# Altium footprint library PJ-002BH-SMT-TR.PcbLib: 1 footprints
Each footprint in its own frame and in the unit in brackets; x right, y up, seen from the top. Pads: shape width x height; smd on the part's side, far side on the other; paste and mask are expansions set on the pad; w line width, h text height; cw(c..) or ccw(c..) is an arc to the next point about the centre after c.
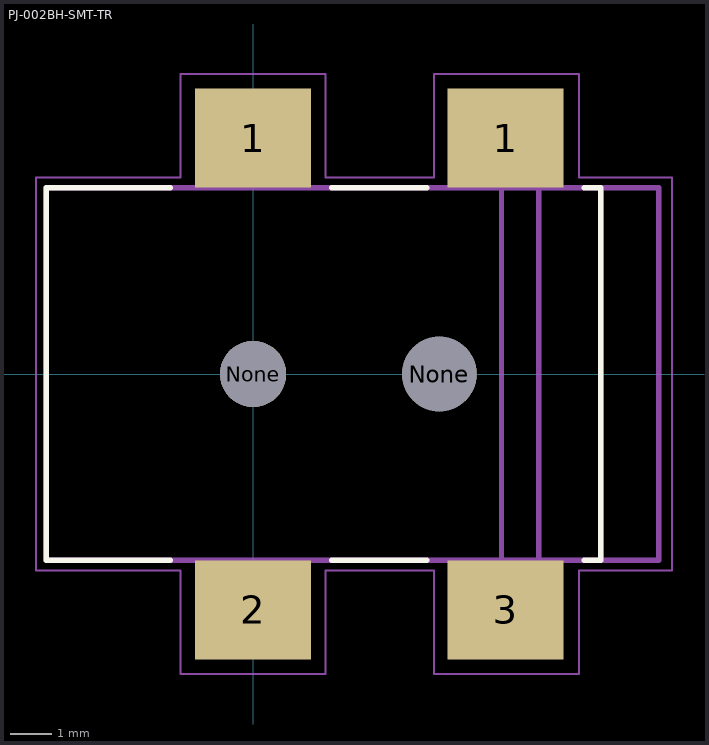
[diagram p0: the footprint, top view; thin cyan lines are the x and y axes]

## PJ-002BH-SMT-TR [mm]
pads (6):
  rect 2.8x2.4 smd: 1(0,5.7) 1(6.1,5.7) 2(0,-5.7) 3(6.1,-5.7)
  round 1.6 hole 1.6 unplated: None(0,0)
  round 1.8 hole 1.8 unplated: None(4.5,0)
Top Overlay:
  lines w0.127: -2,-4.5 -5,-4.5 -5,4.5 -2,4.5 ; 1.9,-4.5 4.2,-4.5 ; 1.9,4.5 4.2,4.5 ; 8,-4.5 8.4,-4.5 8.4,4.5 8,4.5
Mechanical 1:
  lines w0.05: -5.25,-4.75 -1.75,-4.75 -1.75,-7.25 1.75,-7.25 1.75,-4.75 4.375,-4.75 4.375,-7.25 7.875,-7.25 7.875,-4.75 10.125,-4.75 10.125,4.75 7.875,4.75 7.875,7.25 4.375,7.25 4.375,4.75 1.75,4.75 1.75,7.25 -1.75,7.25 -1.75,4.75 -5.25,4.75 -5.25,-4.75
  lines w0.127: 6,-4.5 6.9,-4.5 ; 6,-4.5 -5,-4.5 -5,4.5 6,4.5 ; 6,-4.5 6,4.5 ; 6,4.5 6.9,4.5 ; 6.9,-4.5 8.4,-4.5 ; 6.9,-4.5 6.9,4.5 ; 6.9,4.5 8.4,4.5 ; 8.4,-4.5 9.8,-4.5 9.8,4.5 8.4,4.5 ; 8.4,-4.5 8.4,4.5
3D body "PJ-002BH-SMT-TR.step": height 11.01, standoff -1.19, extent -5.114,-6.35 9.686,6.25